# Altium footprint library Joystick2.PcbLib: 1 footprints
Each footprint in its own frame and in the unit in brackets; x right, y up, seen from the top. Pads: shape width x height; smd on the part's side, far side on the other; paste and mask are expansions set on the pad; w line width, h text height; cw(c..) or ccw(c..) is an arc to the next point about the centre after c.
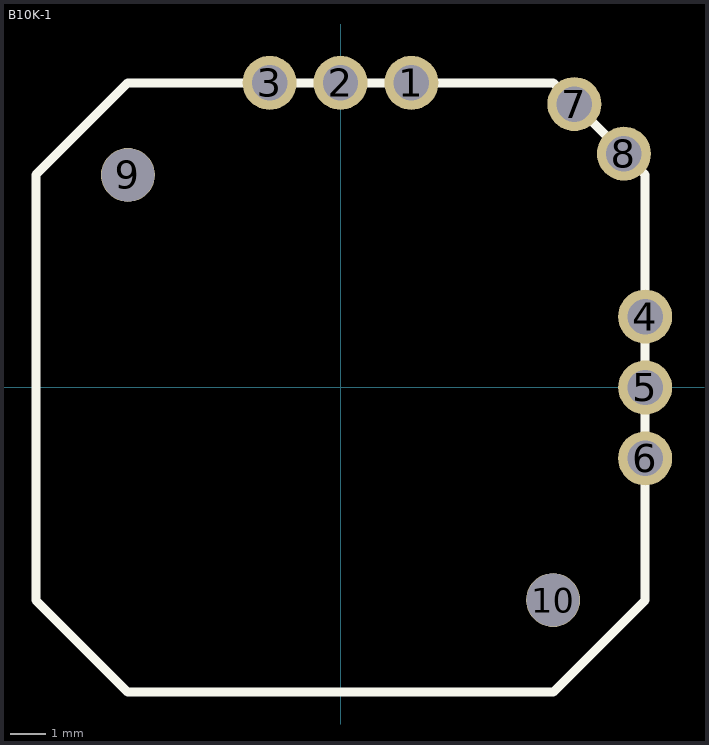
[diagram p0: the footprint, top view; thin cyan lines are the x and y axes]

## B10K-1 [mm]
pads (10):
  round 1.524 hole 1: 1(2,8.6) 2(0,8.6) 3(-2,8.6) 4(8.6,2) 5(8.6,0) 6(8.6,-2) 7(6.6,8) 8(8,6.6)
  round 1.524 hole 1.5: 9(-6,6) 10(6,-6)
Top Overlay:
  lines w0.254: -8.6,-6 -8.6,6 -6,8.6 0,8.6 6,8.6 8.6,6 8.6,-6 6,-8.6 0,-8.6 -6,-8.6 -8.6,-6